# Altium footprint library SMB.PcbLib: 1 footprints
Each footprint in its own frame and in the unit in brackets; x right, y up, seen from the top. Pads: shape width x height; smd on the part's side, far side on the other; paste and mask are expansions set on the pad; w line width, h text height; cw(c..) or ccw(c..) is an arc to the next point about the centre after c.
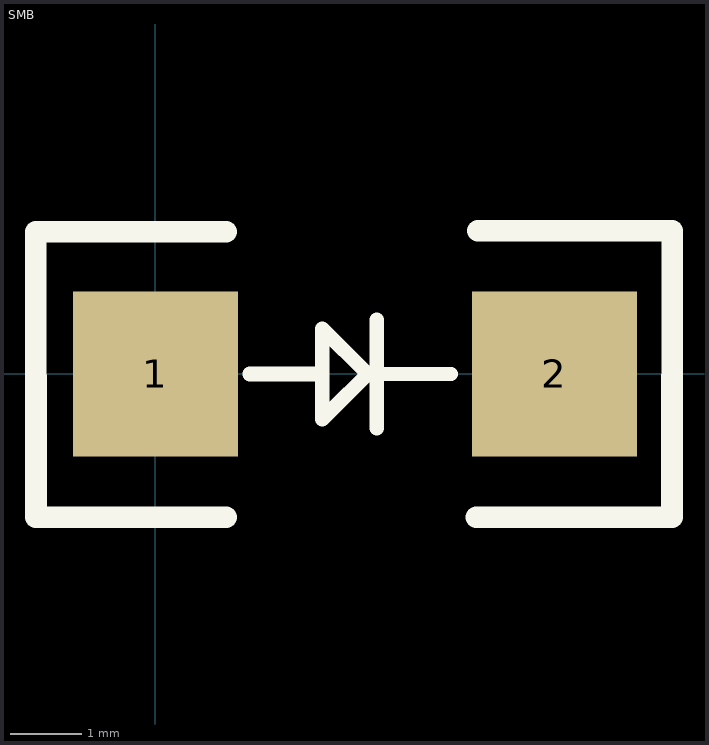
[diagram p0: the footprint, top view; thin cyan lines are the x and y axes]

## SMB [mil]
height 140
pads (2):
  rect 91x91 smd: 1(0,0) 2(220.08,0)
TopOverlay:
  lines w7.8: 122.08,0 163.08,0
  lines w8: 52.08,0 92.08,0 ; 122.08,-30 122.08,30 ; 92.08,0 92.08,-25 97.08,-20 117.08,0 92.08,25 92.08,0
  lines w12: -65.96,-79 39.04,-79 ; -65.92,-79 -65.96,78.48 39.04,78.48 ; 177,-79 285,-79 285.1,79 178,79
Mechanical4:
  text ".105" at 220.08,0 h1
3D body: height 91.35, standoff 0.6, extent 3.88,-72.54 216.48,69.19